# Altium footprint library PB03.PcbLib: 28 footprints (part 2 of 2)
Each footprint in its own frame and in the unit in brackets; x right, y up, seen from the top. Pads: shape width x height; smd on the part's side, far side on the other; paste and mask are expansions set on the pad; w line width, h text height; cw(c..) or ccw(c..) is an arc to the next point about the centre after c.
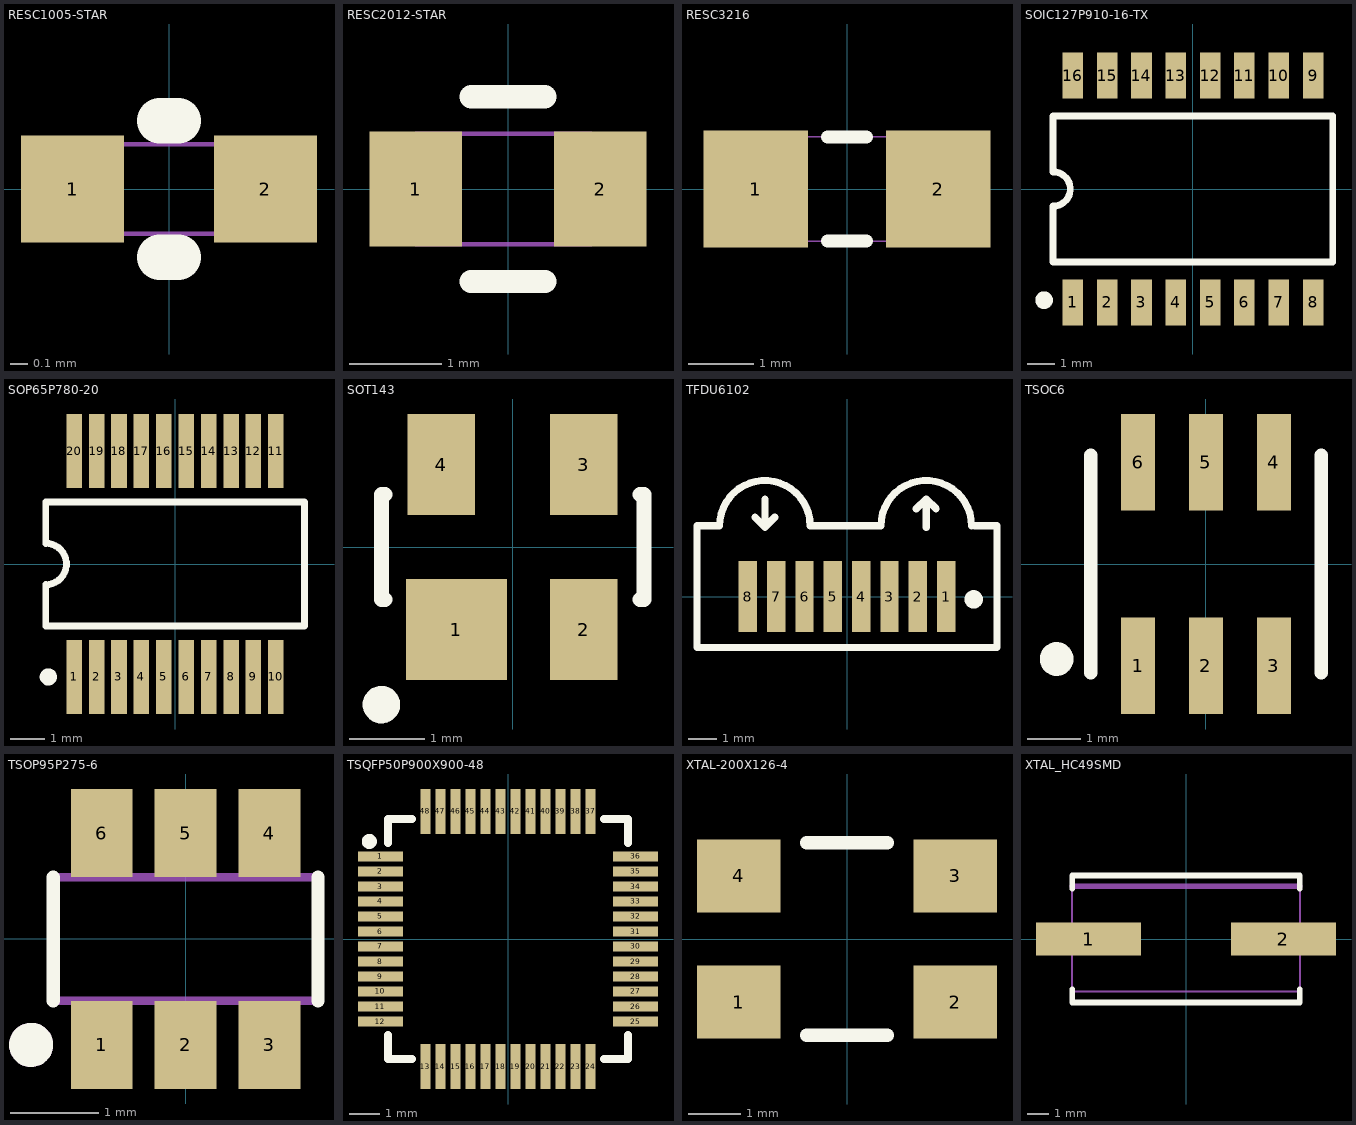
[diagram p1: the footprints below, top view; thin cyan lines are the x and y axes]

## RESC1005-STAR [mm] "Chip Inductor 1005"
height 0.014
pads (2):
  rect 0.575x0.6 smd: 1(-0.538,0) 2(0.538,0)
Top Overlay:
  lines w0.254: -0.051,-0.381 0.051,-0.381 ; -0.051,0.381 0.051,0.381
Mechanical 7:
  lines w0.025: -0.5,-0.25 -0.5,0.25 0.5,0.25 0.5,-0.25 -0.5,-0.25
  text ".Designator" at -0.475,0.075 h0.14
  text ".Comment" at -0.475,-0.2 h0.14
3D body: height 0.25, standoff 0, extent -0.325,-0.252 0.386,0.256
3D body: height 0.1, standoff 0, extent -0.705,-0.251 -0.326,0.256
3D body: height 0.1, standoff 0, extent 0.387,-0.251 0.716,0.256

## RESC2012-STAR [mm] "0805 Resistor SMD - Startronics"
pads (2):
  rect 1x1.25 smd: 1(-1,0) 2(1,0)
Top Overlay:
  lines w0.25: -0.4,-1 0.4,-1
  lines w0.254: -0.4,1 0.4,1
Mechanical 7:
  lines w0.05: -1,-0.6 -1,0.6 0.9,0.6 0.9,-0.6 -1,-0.6
  text ".Designator" at -0.9,0.15 h0.4
  text ".Comment" at -0.9,-0.475 h0.4
3D body: height 0.25, standoff 0, extent -0.576,-0.544 0.611,0.565
3D body: height 0.1, standoff 0, extent 0.613,-0.535 1.069,0.565
3D body: height 0.1, standoff 0, extent -1.031,-0.535 -0.576,0.565

## RESC3216 [mm]
pads (2):
  rect 1.6x1.8 smd: 1(-1.4,0) 2(1.4,0)
Top Overlay:
  lines w0.2: -0.3,-0.8 0.3,-0.8 ; -0.3,0.8 0.3,0.8
Mechanical 7:
  lines w0.025: -1.6,-0.8 1.6,-0.8 1.6,0.8 -1.6,0.8 -1.6,-0.8
  text ".Comment" at -1.5,-0.7 h0.5
  text ".Designator" at -1.5,0.4 h0.5
3D body: height 0.55, standoff 0, extent -1.334,-0.792 -0.71,0.85
3D body: height 0.55, standoff 0, extent 0.743,-0.809 1.367,0.833
3D body: height 0.5, standoff 0, extent -0.752,-0.765 0.816,0.801

## SOIC127P910-16-TX [mm] "16-pin isolation transformer"
height 5.72
pads (16):
  rect 0.76x1.7 smd: 1(-4.445,-4.2) 2(-3.175,-4.2) 3(-1.905,-4.2) 4(-0.635,-4.2) 5(0.635,-4.2) 6(1.905,-4.2) 7(3.175,-4.2) 8(4.445,-4.2) 9(4.445,4.2) 10(3.175,4.2) 11(1.905,4.2) 12(0.635,4.2) 13(-0.635,4.2) 14(-1.905,4.2) 15(-3.175,4.2) 16(-4.445,4.2)
Top Overlay:
  circle w0.4: c-5.51,-4.115 r0.125
  lines w0.254: -5.182,0.635 -5.182,2.7 ; -5.175,0.635 cw(c-5.175,0) -5.175,-0.635 -5.175,-2.7 5.175,-2.7 5.175,2.7 -5.175,2.7
3D body: height 1.83, standoff 0, extent -5.258,-2.845 5.283,2.667
3D body: height 5, standoff 0, extent -5.105,-2.464 5.156,2.261
3D body: height 1.8, standoff 1.5, extent -4.623,2.54 -4.267,3.175
3D body: height 1.8, standoff 1.5, extent -3.353,2.54 -2.997,3.175
3D body: height 1.8, standoff 1.5, extent -2.083,2.54 -1.727,3.175
3D body: height 1.8, standoff 1.5, extent -0.864,2.54 -0.508,3.175
3D body: height 1.8, standoff 1.5, extent 0.457,2.54 0.813,3.175
3D body: height 1.8, standoff 1.5, extent 1.753,2.54 2.108,3.175
3D body: height 1.8, standoff 1.5, extent 3.048,2.515 3.404,3.15
3D body: height 1.8, standoff 1.5, extent 4.293,2.515 4.648,3.15
3D body: height 1.8, standoff 1.5, extent 4.267,-3.175 4.623,-2.54
3D body: height 1.8, standoff 1.5, extent 3.023,-3.175 3.378,-2.54
3D body: height 1.8, standoff 1.5, extent 1.727,-3.15 2.083,-2.515
3D body: height 1.8, standoff 1.5, extent 0.432,-3.15 0.787,-2.515
3D body: height 1.8, standoff 1.5, extent -0.889,-3.15 -0.533,-2.515
3D body: height 1.8, standoff 1.5, extent -2.108,-3.15 -1.753,-2.515
3D body: height 1.8, standoff 1.5, extent -3.378,-3.15 -3.023,-2.515
3D body: height 1.8, standoff 1.5, extent -4.648,-3.15 -4.293,-2.515
3D body: height 1.8, standoff 0, extent -4.623,3.099 -4.318,3.327
3D body: height 1.8, standoff 0, extent -3.353,3.124 -3.048,3.353
3D body: height 1.8, standoff 0, extent -2.083,3.124 -1.778,3.353
3D body: height 1.8, standoff 0, extent -0.864,3.124 -0.559,3.353
3D body: height 1.8, standoff 0, extent 0.483,3.124 0.787,3.353
3D body: height 1.8, standoff 0, extent 1.753,3.124 2.057,3.353
3D body: height 1.8, standoff 0, extent 3.048,3.124 3.353,3.353
3D body: height 1.8, standoff 0, extent 4.293,3.124 4.597,3.353
3D body: height 1.8, standoff 0, extent -4.648,-3.353 -4.343,-3.124
3D body: height 1.8, standoff 0, extent -3.378,-3.353 -3.073,-3.124
3D body: height 1.8, standoff 0, extent -2.134,-3.353 -1.829,-3.124
3D body: height 1.8, standoff 0, extent -0.864,-3.327 -0.559,-3.099
3D body: height 1.8, standoff 0, extent 0.406,-3.353 0.711,-3.124
3D body: height 1.8, standoff 0, extent 1.727,-3.353 2.032,-3.124
3D body: height 1.8, standoff 0, extent 3.023,-3.353 3.327,-3.124
3D body: height 1.8, standoff 0, extent 4.267,-3.353 4.572,-3.124
3D body: height 0.3, standoff 0, extent 4.293,3.327 4.648,3.962
3D body: height 0.3, standoff 0, extent 3.048,3.327 3.404,3.962
3D body: height 0.3, standoff 0, extent 1.753,3.353 2.108,3.988
3D body: height 0.3, standoff 0, extent 0.457,3.353 0.813,3.988
3D body: height 0.3, standoff 0, extent -0.838,3.327 -0.483,3.962
3D body: height 0.3, standoff 0, extent -2.083,3.353 -1.727,3.988
3D body: height 0.3, standoff 0, extent -3.353,3.353 -2.997,3.988
3D body: height 0.3, standoff 0, extent -4.623,3.327 -4.267,3.962
3D body: height 0.3, standoff 0, extent -4.648,-3.962 -4.293,-3.327
3D body: height 0.3, standoff 0, extent -3.378,-3.962 -3.023,-3.327
3D body: height 0.3, standoff 0, extent -2.134,-3.937 -1.778,-3.302
3D body: height 0.3, standoff 0, extent -0.889,-3.937 -0.533,-3.302
3D body: height 0.3, standoff 0, extent 0.432,-3.937 0.787,-3.302
3D body: height 0.3, standoff 0, extent 1.727,-3.937 2.083,-3.302
3D body: height 0.3, standoff 0, extent 3.023,-3.962 3.378,-3.327
3D body: height 0.3, standoff 0, extent 4.293,-3.937 4.648,-3.302
3D body: height 5.05, standoff 0, extent -4.484,-2.028 -3.598,-1.142

## SOP65P780-20 [mm]
height 1.35
pads (20):
  rect 0.45x2.15 smd: 1(-2.925,-3.275) 2(-2.275,-3.275) 3(-1.625,-3.275) 4(-0.975,-3.275) 5(-0.325,-3.275) 6(0.325,-3.275) 7(0.975,-3.275) 8(1.625,-3.275) 9(2.275,-3.275) 10(2.925,-3.275) 11(2.925,3.275) 12(2.275,3.275) 13(1.625,3.275) 14(0.975,3.275) 15(0.325,3.275) 16(-0.325,3.275) 17(-0.975,3.275) 18(-1.625,3.275) 19(-2.275,3.275) 20(-2.925,3.275)
Top Overlay:
  circle w0.25: c-3.675,-3.275 r0.125
  lines w0.2: -3.75,-1.8 -3.75,-0.6 ccw(c-3.75,0) -3.75,0.6 -3.75,1.8 3.75,1.8 3.75,-1.8 -3.75,-1.8
3D body: height 1, standoff 0, extent -3.278,-1.757 3.378,1.807
3D body: height 0.25, standoff 0.13, extent 2.849,1.894 3.027,2.631
3D body: height 0.13, standoff 0, extent 2.849,2.567 3.027,3.253
3D body: height 0.25, standoff 0.13, extent 2.189,1.919 2.367,2.656
3D body: height 0.13, standoff 0, extent 2.189,2.592 2.367,3.278
3D body: height 0.13, standoff 0, extent 2.85,-3.326 3.028,-2.641
3D body: height 0.25, standoff 0.13, extent 2.85,-2.679 3.028,-1.942
3D body: height 0.13, standoff 0, extent 2.215,-3.301 2.393,-2.615
3D body: height 0.25, standoff 0.13, extent 2.215,-2.679 2.393,-1.942
3D body: height 0.25, standoff 0.13, extent 1.478,1.843 1.656,2.58
3D body: height 0.13, standoff 0, extent 1.478,2.516 1.656,3.202
3D body: height 0.25, standoff 0.13, extent 0.843,1.843 1.021,2.58
3D body: height 0.13, standoff 0, extent 0.843,2.542 1.021,3.227
3D body: height 0.25, standoff 0.13, extent 0.182,1.869 0.36,2.605
3D body: height 0.13, standoff 0, extent 0.182,2.542 0.36,3.227
3D body: height 0.25, standoff 0.13, extent -0.478,1.894 -0.3,2.631
3D body: height 0.13, standoff 0, extent -0.478,2.567 -0.3,3.253
3D body: height 0.13, standoff 0, extent 1.529,-3.25 1.707,-2.564
3D body: height 0.25, standoff 0.13, extent 1.529,-2.628 1.707,-1.891
3D body: height 0.13, standoff 0, extent 0.869,-3.225 1.047,-2.539
3D body: height 0.25, standoff 0.13, extent 0.869,-2.602 1.047,-1.866
3D body: height 0.13, standoff 0, extent 0.209,-3.225 0.386,-2.539
3D body: height 0.25, standoff 0.13, extent 0.209,-2.577 0.386,-1.84
3D body: height 0.13, standoff 0, extent -0.426,-3.199 -0.249,-2.514
3D body: height 0.25, standoff 0.13, extent -0.426,-2.577 -0.249,-1.84
3D body: height 0.25, standoff 0.13, extent -2.966,-2.577 -2.789,-1.84
3D body: height 0.13, standoff 0, extent -2.966,-3.199 -2.789,-2.514
3D body: height 0.25, standoff 0.13, extent -2.331,-2.577 -2.154,-1.84
3D body: height 0.13, standoff 0, extent -2.331,-3.225 -2.154,-2.539
3D body: height 0.25, standoff 0.13, extent -1.671,-2.602 -1.493,-1.866
3D body: height 0.13, standoff 0, extent -1.671,-3.225 -1.493,-2.539
3D body: height 0.25, standoff 0.13, extent -1.011,-2.628 -0.833,-1.891
3D body: height 0.13, standoff 0, extent -1.011,-3.25 -0.833,-2.564
3D body: height 0.13, standoff 0, extent -3.018,2.567 -2.84,3.253
3D body: height 0.25, standoff 0.13, extent -3.018,1.894 -2.84,2.631
3D body: height 0.13, standoff 0, extent -2.358,2.542 -2.18,3.227
3D body: height 0.25, standoff 0.13, extent -2.358,1.869 -2.18,2.605
3D body: height 0.13, standoff 0, extent -1.697,2.542 -1.519,3.227
3D body: height 0.25, standoff 0.13, extent -1.697,1.843 -1.519,2.58
3D body: height 0.13, standoff 0, extent -1.062,2.516 -0.884,3.202
3D body: height 0.25, standoff 0.13, extent -1.062,1.843 -0.884,2.58
3D body: height 0.9, standoff 0, extent -3.327,-2.008 3.429,2.007

## SOT143 [mm] "SOT-143; 4 Leads; Body 3 x 2.6 mm, inc. leads (LxW max)"
height 1.1
pads (4):
  rect 1.35x1.35 smd: 1(-0.75,-1.1)
  rect 0.9x1.35 smd: 2(0.95,-1.1) 3(0.95,1.1) 4(-0.95,1.1)
Top Overlay:
  circle w0.25: c-1.75,-2.1 r0.125
  lines w0.2: -1.7,-0.7 -1.75,-0.7 -1.75,0.7 -1.7,0.7 ; 1.7,-0.7 1.75,-0.7 1.75,0.7 1.7,0.7
3D body: height 0.2, standoff 0, extent 0.779,-1.464 1.125,-0.414
3D body: height 0.2, standoff 0, extent -1.166,-1.503 -0.82,-0.452
3D body: height 0.2, standoff 0, extent 0.784,0.408 1.13,1.459
3D body: height 0.2, standoff 0, extent -1.149,0.408 -0.803,1.459
3D body: height 0.8, standoff 0, extent -1.516,-0.878 1.514,0.931

## TFDU6102 [mm] "IrDA Transceiver; SM; 8 Leads; Body 10.1 x 4.02 x4.70 (LxWxH max)"
height 4.7
pads (8):
  rect 0.65x2.5 smd: 1(3.5,0) 2(2.5,0) 3(1.5,0) 4(0.5,0) 5(-0.5,0) 6(-1.5,0) 7(-2.5,0) 8(-3.5,0)
Top Overlay:
  circle w0.4: c4.475,-0.1 r0.125
  lines w0.254: -3.25,2.8 -2.9,2.45 ; -2.9,3.45 -2.9,2.45 ; -2.55,2.8 -2.9,2.45 ; 2.45,3.1 2.8,3.45 ; 2.8,2.45 2.8,3.45 ; 3.15,3.1 2.8,3.45 ; 4.4,2.5 ccw(c2.8,2.5) 1.2,2.5 -1.3,2.5 ccw(c-2.9,2.5) -4.5,2.5 -5.3,2.5 -5.3,-1.8 5.3,-1.8 5.3,2.5 4.5,2.5
3D body: height 4, standoff 0, extent -5.119,1.035 5.24,2.175
3D body: height 3.5, standoff 0.5, extent 1.331,0.609 4.315,3.596
3D body: height 3.5, standoff 0.5, extent -4.223,0.734 -1.239,3.721
3D body: height 1.4, standoff 0, extent 3.281,-0.8 3.739,-0.597
3D body: height 0.18, standoff 0, extent 3.298,-0.872 3.76,-0.664
3D body: height 1.4, standoff 0, extent 2.24,-0.786 2.697,-0.583
3D body: height 0.18, standoff 0, extent 2.256,-0.858 2.718,-0.65
3D body: height 1.4, standoff 0, extent 1.197,-0.786 1.654,-0.583
3D body: height 0.18, standoff 0, extent 1.213,-0.858 1.675,-0.65
3D body: height 1.4, standoff 0, extent 0.139,-0.786 0.597,-0.583
3D body: height 0.18, standoff 0, extent 0.156,-0.858 0.618,-0.65
3D body: height 1.4, standoff 0, extent -0.831,-0.786 -0.374,-0.583
3D body: height 0.18, standoff 0, extent -0.815,-0.858 -0.353,-0.65
3D body: height 1.4, standoff 0, extent -1.803,-0.8 -1.345,-0.597
3D body: height 0.18, standoff 0, extent -1.786,-0.872 -1.324,-0.664
3D body: height 1.4, standoff 0, extent -2.773,-0.814 -2.316,-0.611
3D body: height 0.18, standoff 0, extent -2.757,-0.886 -2.295,-0.678
3D body: height 0.18, standoff 0, extent -3.779,-0.883 -3.318,-0.676
3D body: height 1.4, standoff 0, extent -3.796,-0.812 -3.338,-0.608
3D body: height 3.9, standoff 0, extent -5.125,-0.675 5.289,1.027

## TSOC6 [mil]
pads (6):
  rect 25x71 smd: 1(-50,-75) 2(0,-75) 3(50,-75) 4(50,75) 5(0,75) 6(-50,75)
Top Overlay:
  circle w15: c-110,-70 r4.92
  lines w10: -85,-80 -85,80 ; 85,-80 85,80
3D body: height 39.37, standoff 0, extent -79.43,-64.96 83.84,72.83
3D body: height 19.68, standoff 0, extent 37.05,36.93 61.02,91.02
3D body: height 19.68, standoff 0, extent -12.17,36.93 11.81,91.02
3D body: height 19.68, standoff 0, extent -62.95,35.47 -38.98,89.57
3D body: height 19.68, standoff 0, extent 38.58,-89.57 62.56,-35.47
3D body: height 19.68, standoff 0, extent -11.81,-88.07 12.17,-33.98
3D body: height 19.68, standoff 0, extent -61.81,-88.29 -37.83,-34.19
3D body: height 40, standoff 0, extent -62.54,-34.61 -40.14,-12.2

## TSOP95P275-6 [mm]
height 1.1
pads (6):
  rect 0.7x1 smd: 1(-0.95,-1.2) 2(0,-1.2) 3(0.95,-1.2) 4(0.95,1.2) 5(0,1.2) 6(-0.95,1.2)
Top Overlay:
  circle w0.25: c-1.75,-1.2 r0.125
  lines w0.15: -1.5,-0.7 -1.5,0.7 ; 1.5,-0.7 1.5,0.7
Mechanical 7:
  circle w0.25: c-1.75,-1.2 r0.125
  rectangle: -1.1,0.7 -0.9,1.3
  rectangle: -0.1,0.7 0.1,1.3
  rectangle: 0.9,0.7 1.1,1.3
  region: 1.1,-0.7 0.9,-0.7 0.9,-1.3 1.1,-1.3
  region: 0.1,-0.7 -0.1,-0.7 -0.1,-1.3 0.1,-1.3
  region: -0.9,-0.7 -1.1,-0.7 -1.1,-1.3 -0.9,-1.3
  lines w0.1: -1.5,-0.7 1.5,-0.7 1.5,0.7 -1.5,0.7 -1.5,-0.7
  text ".Designator" at -1.4,0.2 h0.5
  text ".Comment" at -1.4,-0.3 h0.5
3D body: height 0.3, standoff 0, extent 0.888,0.687 1.111,1.286
3D body: height 0.3, standoff 0, extent -0.119,0.696 0.104,1.295
3D body: height 0.3, standoff 0, extent -1.103,0.691 -0.88,1.291
3D body: height 0.3, standoff 0, extent 0.905,-1.304 1.128,-0.704
3D body: height 0.3, standoff 0, extent -0.101,-1.304 0.122,-0.704
3D body: height 0.3, standoff 0, extent -1.094,-1.301 -0.871,-0.702
3D body: height 0.8, standoff 0, extent -1.49,-0.701 1.508,0.698

## TSQFP50P900X900-48 [mm]
pads (48):
  rect 1.5x0.325 smd: 1(-4.25,2.75) 2(-4.25,2.25) 3(-4.25,1.75) 4(-4.25,1.25) 5(-4.25,0.75) 6(-4.25,0.25) 7(-4.25,-0.25) 8(-4.25,-0.75) 9(-4.25,-1.25) 10(-4.25,-1.75) 11(-4.25,-2.25) 12(-4.25,-2.75) 25(4.25,-2.75) 26(4.25,-2.25) 27(4.25,-1.75) 28(4.25,-1.25) 29(4.25,-0.75) 30(4.25,-0.25) 31(4.25,0.25) 32(4.25,0.75) 33(4.25,1.25) 34(4.25,1.75) 35(4.25,2.25) 36(4.25,2.75)
  rect 0.325x1.5 smd: 13(-2.75,-4.25) 14(-2.25,-4.25) 15(-1.75,-4.25) 16(-1.25,-4.25) 17(-0.75,-4.25) 18(-0.25,-4.25) 19(0.25,-4.25) 20(0.75,-4.25) 21(1.25,-4.25) 22(1.75,-4.25) 23(2.25,-4.25) 24(2.75,-4.25) 37(2.75,4.25) 38(2.25,4.25) 39(1.75,4.25) 40(1.25,4.25) 41(0.75,4.25) 42(0.25,4.25) 43(-0.25,4.25) 44(-0.75,4.25) 45(-1.25,4.25) 46(-1.75,4.25) 47(-2.25,4.25) 48(-2.75,4.25)
Top Overlay:
  circle w0.25: c-4.621,3.251 r0.125
  lines w0.254: -4,-3.2 -4,-4 -3.2,-4 ; -4,3.2 -4,4 -3.2,4 ; 3.2,-4 4,-4 4,-3.2 ; 3.2,4 4,4 4,3.2
3D body: height 0.3, standoff 0.1, extent -4.044,-0.84 -3.001,-0.617
3D body: height 0.3, standoff 0.1, extent -1.825,3.154 -1.602,4.205
3D body: height 0.3, standoff 0.1, extent 2.642,3.146 2.865,4.189
3D body: height 0.3, standoff 0.1, extent 2.151,3.14 2.374,4.191
3D body: height 0.3, standoff 0.1, extent 2.155,-4.116 2.379,-3.066
3D body: height 0.3, standoff 0.1, extent 2.655,-4.112 2.878,-3.069
3D body: height 0.3, standoff 0.1, extent 0.159,-4.11 0.382,-3.06
3D body: height 0.3, standoff 0.1, extent 0.679,-4.076 0.902,-3.033
3D body: height 0.3, standoff 0.1, extent 1.181,-4.115 1.404,-3.071
3D body: height 0.3, standoff 0.1, extent -0.834,-4.088 -0.61,-3.044
3D body: height 0.3, standoff 0.1, extent -1.344,-4.076 -1.121,-3.033
3D body: height 0.3, standoff 0.1, extent -1.855,-4.113 -1.632,-3.063
3D body: height 0.3, standoff 0.1, extent -2.373,3.181 -2.15,4.232
3D body: height 0.3, standoff 0.1, extent -2.873,3.198 -2.65,4.242
3D body: height 0.3, standoff 0.1, extent -0.342,3.178 -0.118,4.229
3D body: height 0.3, standoff 0.1, extent -0.85,3.149 -0.626,4.192
3D body: height 0.3, standoff 0.1, extent -1.36,3.176 -1.137,4.219
3D body: height 0.3, standoff 0.1, extent 0.155,3.149 0.378,4.192
3D body: height 0.3, standoff 0.1, extent 1.147,3.176 1.37,4.219
3D body: height 0.3, standoff 0.1, extent 1.637,3.161 1.86,4.212
3D body: height 0.3, standoff 0.1, extent 2.93,2.114 3.981,2.337
3D body: height 0.3, standoff 0.1, extent 2.931,2.637 3.974,2.86
3D body: height 0.3, standoff 0.1, extent 2.934,0.139 3.985,0.362
3D body: height 0.3, standoff 0.1, extent 2.956,0.635 3.999,0.858
3D body: height 0.3, standoff 0.1, extent 2.931,1.143 3.974,1.366
3D body: height 0.3, standoff 0.1, extent 2.931,-0.864 3.974,-0.64
3D body: height 0.3, standoff 0.1, extent 2.931,-1.346 3.974,-1.123
3D body: height 0.3, standoff 0.1, extent 2.93,-1.862 3.981,-1.638
3D body: height 0.3, standoff 0.1, extent -4.007,2.625 -2.956,2.848
3D body: height 0.3, standoff 0.1, extent -4.015,2.117 -2.971,2.34
3D body: height 0.3, standoff 0.1, extent -3.998,1.628 -2.954,1.851
3D body: height 0.8, standoff 0, extent -3.26,-3.298 3.039,3.226
3D body: height 0.3, standoff 0.1, extent -4.025,-0.401 -2.981,-0.178
3D body: height 0.3, standoff 0.1, extent -4.025,0.107 -2.981,0.33
3D body: height 0.3, standoff 0.1, extent -4.007,0.605 -2.956,0.828
3D body: height 0.3, standoff 0.1, extent -4.006,-1.873 -2.962,-1.65
3D body: height 0.3, standoff 0.1, extent -4.007,-1.37 -2.957,-1.146
3D body: height 0.3, standoff 0.1, extent -4.003,-2.361 -2.959,-2.138
3D body: height 0.3, standoff 0.1, extent -3.973,-2.869 -2.93,-2.646
3D body: height 0.3, standoff 0.1, extent -3.999,1.098 -2.956,1.321
3D body: height 0.3, standoff 0.1, extent -2.349,-4.115 -2.126,-3.071
3D body: height 0.3, standoff 0.1, extent -2.848,-4.135 -2.625,-3.092
3D body: height 0.3, standoff 0.1, extent -0.343,-4.076 -0.12,-3.033
3D body: height 0.3, standoff 0.1, extent 1.653,-4.112 1.877,-3.069
3D body: height 0.3, standoff 0.1, extent 2.94,-2.833 3.983,-2.61
3D body: height 0.3, standoff 0.1, extent 2.963,-2.364 4.007,-2.141
3D body: height 0.3, standoff 0.1, extent 2.966,-0.357 4.01,-0.134
3D body: height 0.3, standoff 0.1, extent 2.941,1.624 3.984,1.847
3D body: height 0.3, standoff 0.1, extent 0.633,3.143 0.856,4.187
3D body: height 0.85, standoff 0.05, extent -2.59,1.896 -1.873,2.613

## XTAL-200X126-4 [mil] "CRYSTAL SMD 200x126x44 mils, 4 pads"
height 44
pads (4):
  rect 63x55 smd: 1(-81.5,-47.5) 2(81.5,-47.5) 3(81.5,47.5) 4(-81.5,47.5)
Top Overlay:
  lines w10: -30.5,-72.5 30.5,-72.5 ; -30.5,72.5 30.5,72.5
3D body: height 19.68, standoff 0, extent 63.81,-72.93 99.36,-46.72
3D body: height 19.68, standoff 0, extent -99.88,-72.84 -64.33,-46.63
3D body: height 19.68, standoff 0, extent 66.92,46.85 102.47,73.06
3D body: height 19.68, standoff 0, extent -97.81,46.85 -62.26,73.06
3D body: height 39.37, standoff 0, extent -114.46,-46.87 113.11,46.73

## XTAL_HC49SMD [mm] "HC49 SMD Crystal"
height 5
pads (2):
  rect 4.8x1.5 smd: 1(-4.45,0) 2(4.45,0)
Top Overlay:
  lines w0.254: -5.2,-2.3 -5.2,-2.9 5.2,-2.9 5.2,-2.3 ; -5.2,2.3 -5.2,2.9 5.2,2.9 5.2,2.3
Mechanical 7:
  lines w0.1: -5.2,2.4 -5.2,-2.4 5.2,-2.4 5.2,2.4
  lines w0.254: -5.2,2.4 5.2,2.4
  text ".Designator" at -5,1.4 h1.2
  text ".Comment" at -5,0.3 h1.2
3D body: height 3, standoff 0.2, extent -6.034,-2.24 5.989,2.163
3D body: height 0.51, standoff 0, extent -6.585,-2.791 6.54,2.714